# Altium footprint library SamacSys.PcbLib: 8 footprints
Each footprint in its own frame and in the unit in brackets; x right, y up, seen from the top. Pads: shape width x height; smd on the part's side, far side on the other; paste and mask are expansions set on the pad; w line width, h text height; cw(c..) or ccw(c..) is an arc to the next point about the centre after c.
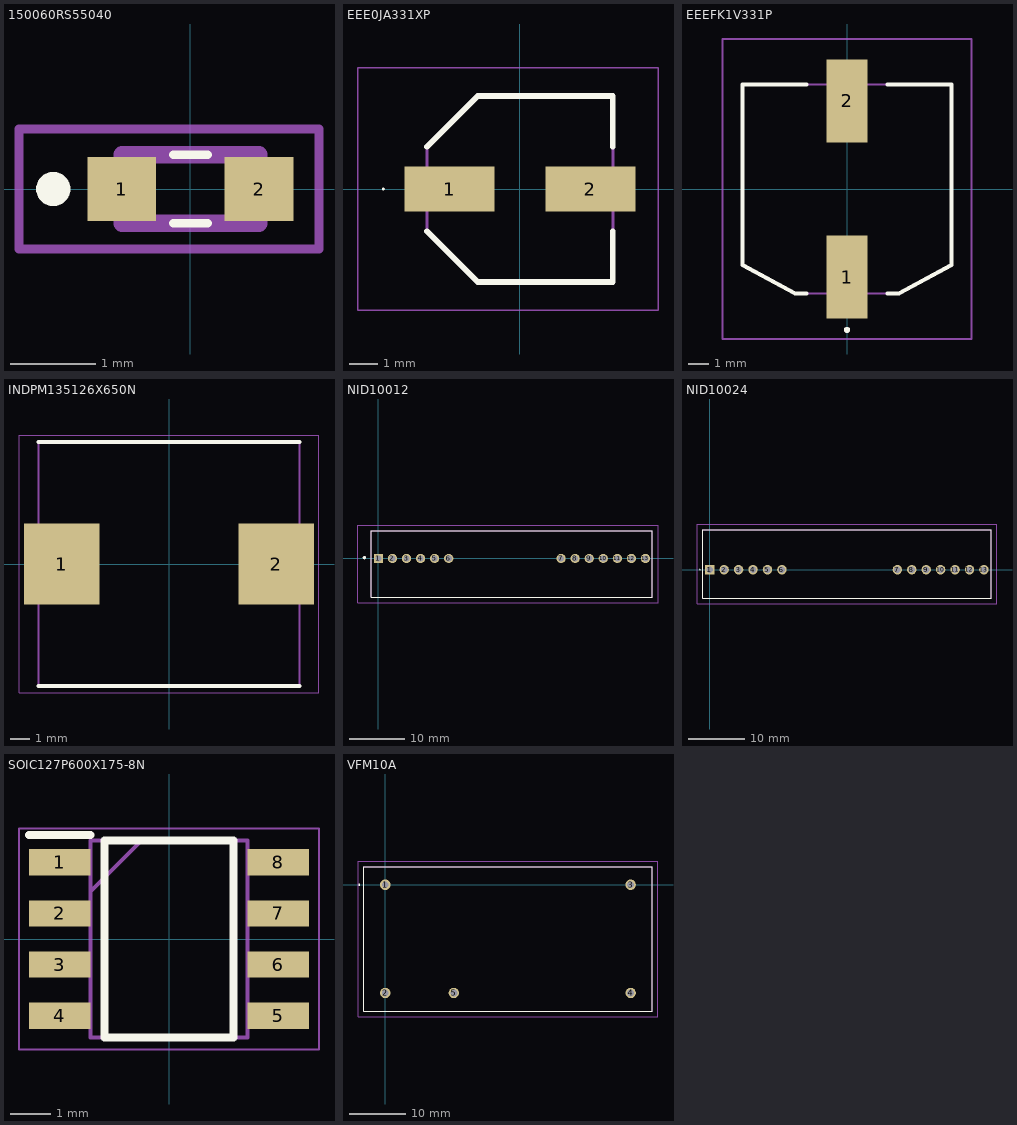
[diagram p0: the footprints below, top view; thin cyan lines are the x and y axes]

## 150060RS55040 [mm]
pads (2):
  rect 0.8x0.75 smd: 1(-0.8,0) 2(0.8,0)
Top Overlay:
  lines w0.1: -0.2,-0.4 0.2,-0.4 ; -0.2,0.4 0.2,0.4
  lines w0.2: -1.6,-0.1 ccw(c-1.6,0) -1.6,0.1 ccw(c-1.6,0) -1.6,-0.1
Mechanical 13:
  lines w0.2: -0.8,-0.4 0.8,-0.4 0.8,0.4 -0.8,0.4 -0.8,-0.4
Mechanical 15:
  lines w0.1: -2,-0.7 1.5,-0.7 1.5,0.7 -2,0.7 -2,-0.7

## EEE0JA331XP [mm]
pads (2):
  rect 3.2x1.6 smd: 1(-2.5,0) 2(2.5,0)
Top Overlay:
  lines w0.05: -4.875,0 ccw(c-4.85,0) -4.825,0 ccw(c-4.85,0) -4.875,0
  lines w0.2: -3.3,-1.5 -1.5,-3.3 3.3,-3.3 3.3,-1.5 ; -3.3,1.5 -1.5,3.3 3.3,3.3 3.3,1.5
Mechanical 13:
  lines w0.1: -3.3,1.5 -1.5,3.3 ; -3.3,1.5 -3.3,-1.5 -1.5,-3.3 3.3,-3.3 3.3,3.3 -1.5,3.3 ; -3.3,1.5 -1.5,3.3
Mechanical 15:
  lines w0.05: -5.75,-4.3 4.9,-4.3 4.9,4.3 -5.75,4.3 -5.75,-4.3
3D body "EEE-FK1J220XP.stp": height 7.7, standoff 0, extent -3.65,-3.3 3.65,3.3

## EEEFK1V331P [mm]
pads (2):
  rect 2x4.1 smd: 1(0,-4.35) 2(0,4.35)
Top Overlay:
  lines w0.2: -2,-5.15 -2.575,-5.15 -5.15,-3.75 -5.15,5.15 -2,5.15 ; 2,-5.15 2.575,-5.15 5.15,-3.75 5.15,5.15 2,5.15 ; 0,-7 cw(c0,-6.95) 0,-6.9 ; 0,-7 ccw(c0,-6.95) 0,-6.9 ; 0,-7 cw(c0,-6.95) 0,-6.9
Mechanical 13:
  lines w0.1: -5.15,-3.75 -2.575,-5.15 2.575,-5.15 5.15,-3.75 5.15,5.15 -5.15,5.15 -5.15,-3.75
Mechanical 15:
  lines w0.1: -6.15,-7.4 -6.15,7.4 6.15,7.4 6.15,-7.4 -6.15,-7.4
3D body "EEE-FK1J121SL.stp": height 10.3, standoff 0.1, extent -5.15,-5.85 5.15,5.85

## INDPM135126X650N [mm]
pads (2):
  rect 3.9x4.2 smd: 1(-5.55,0) 2(5.55,0)
Top Overlay:
  lines w0.2: -6.75,-6.3 6.75,-6.3 ; -6.75,6.3 6.75,6.3
Mechanical 13:
  lines w0.1: -6.75,-6.3 -6.75,6.3 6.75,6.3 6.75,-6.3 -6.75,-6.3
Mechanical 15:
  lines w0.05: -7.75,-6.65 -7.75,6.65 7.75,6.65 7.75,-6.65 -7.75,-6.65
3D body "SRP1265C-150M.stp": height 6.5, standoff 0, extent -6.75,-6.3 6.75,6.3

## NID10012 [mm]
pads (13):
  rect 1.665x1.665 hole 1.11: 1(0,0)
  round 1.665 hole 1.11: 2(2.54,0) 3(5.08,0) 4(7.62,0) 5(10.16,0) 6(12.7,0) 7(33.02,0) 8(35.56,0) 9(38.1,0) 10(40.64,0) 11(43.18,0) 12(45.72,0) 13(48.26,0)
Top Overlay:
  lines w0.1: -1.27,-7 -1.27,5 49.53,5 49.53,-7 -1.27,-7
  lines w0.3: -2.54,0 cw(c-2.54,0.15) -2.54,0.3 cw(c-2.54,0.15) -2.54,0
Mechanical 13:
  lines w0.2: -1.27,-7 -1.27,5 49.53,5 49.53,-7 -1.27,-7
Mechanical 15:
  lines w0.1: -3.69,-8 -3.69,6 50.53,6 50.53,-8 -3.69,-8
3D body "NID100-12.stp": height 27.6, standoff -5, extent -1.27,-7 49.53,5

## NID10024 [mm]
pads (13):
  rect 1.665x1.665 hole 1.11: 1(0,0)
  round 1.665 hole 1.11: 2(2.54,0) 3(5.08,0) 4(7.62,0) 5(10.16,0) 6(12.7,0) 7(33.02,0) 8(35.56,0) 9(38.1,0) 10(40.64,0) 11(43.18,0) 12(45.72,0) 13(48.26,0)
Top Overlay:
  lines w0.1: -1.8,0 cw(c-1.75,0) -1.7,0 cw(c-1.75,0) -1.8,0
  lines w0.2: -1.24,-5 -1.24,7 49.56,7 49.56,-5 -1.24,-5
Mechanical 13:
  lines w0.1: -1.24,-5 -1.24,7 49.56,7 49.56,-5 -1.24,-5
Mechanical 15:
  lines w0.1: -2.24,-6 -2.24,8 50.56,8 50.56,-6 -2.24,-6
3D body "NID100-24.stp": height 27.6, standoff -5, extent -1.24,-5 49.56,7

## SOIC127P600X175-8N [mm]
pads (8):
  rect 1.525x0.65 smd: 1(-2.712,1.905) 2(-2.712,0.635) 3(-2.712,-0.635) 4(-2.712,-1.905) 5(2.712,-1.905) 6(2.712,-0.635) 7(2.712,0.635) 8(2.712,1.905)
Top Overlay:
  lines w0.2: -3.475,2.58 -1.95,2.58 ; -1.6,-2.45 1.6,-2.45 1.6,2.45 -1.6,2.45 -1.6,-2.45
Mechanical 13:
  lines w0.1: -1.95,1.18 -0.68,2.45 ; -1.95,-2.45 1.95,-2.45 1.95,2.45 -1.95,2.45 -1.95,-2.45
Mechanical 15:
  lines w0.05: -3.725,-2.75 3.725,-2.75 3.725,2.75 -3.725,2.75 -3.725,-2.75
3D body "NE555DR.stp": height 1.75, standoff 0, extent -3,-2.45 3,2.45

## VFM10A [mm]
pads (5):
  round 1.83 hole 1.22: 1(0,0) 2(0,-19.05) 3(43.18,0) 4(43.18,-19.05) 5(12.06,-19.05)
Top Overlay:
  lines w0.1: -3.8,-22.25 -3.8,3.15 47,3.15 47,-22.25 -3.8,-22.25
  lines w0.2: -4.6,-0.1 ccw(c-4.6,0) -4.6,0.1 ccw(c-4.6,0) -4.6,-0.1
Mechanical 13:
  lines w0.2: -3.8,-22.25 -3.8,3.15 47,3.15 47,-22.25 -3.8,-22.25
Mechanical 15:
  lines w0.1: -4.8,-23.25 -4.8,4.15 48,4.15 48,-23.25 -4.8,-23.25
3D body "VFM-10A.stp": height 11.8, standoff -5, extent -3.8,-22.25 47,3.15